# Altium integrated library CAP_FILM.IntLib: 1 symbol
Pins are listed as number, name and electrical type; pins without a type are passive.

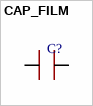
[diagram p0: symbol CAP_FILM]

## CAP_FILM
designator C?
footprint CAP_FILM
pins: 1 C, 2 A